# EAGLE library part ADS8325 (library open-ephys)
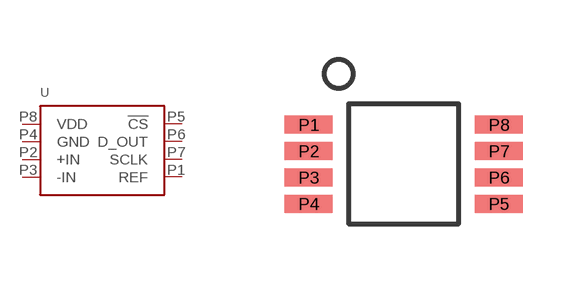
[diagram p12: symbol with the pads of 8-MSOP; footprint 8-MSOP]

Designator prefix -

## ADS8325  [8-MSOP]
P1  REF
P2  +IN
P3  -IN
P4  GND
P5  !CS!
P6  D_OUT
P7  SCLK
P8  VDD

## Footprint 8-MSOP (pad centres in mm)
smd 1.2 x 0.45: P1 -2.375,0.98; P2 -2.375,0.32; P3 -2.375,-0.34; P4 -2.375,-1; P5 2.385,-1; P6 2.385,-0.34; P7 2.385,0.32; P8 2.385,0.98